# EAGLE library part AS1115 (library microbuilder)
AS1115 - 64 LED (8 * 7-Segment) LED Driver VDD: 2.7-5.5V Digikey: AS1115-BSSTCT-ND
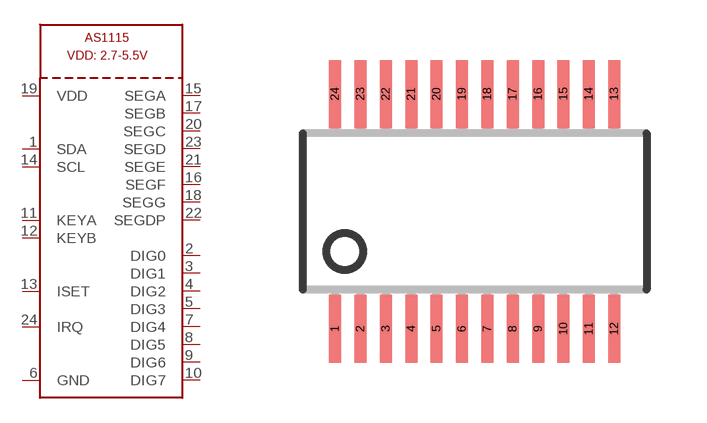
[diagram p165: symbol with the pads of QSOP24_0.635MM; footprint QSOP24_0.635MM]

Designator prefix U

## AS1115  [QSOP24_0.635MM]
1  SDA
2  DIG0
3  DIG1
4  DIG2
5  DIG3
6  GND
7  DIG4
8  DIG5
9  DIG6
10  DIG7
11  KEYA
12  KEYB
13  ISET
14  SCL
15  SEGA
16  SEGF
17  SEGB
18  SEGG
19  VDD
20  SEGC
21  SEGE
22  SEGDP
23  SEGD
24  IRQ

## Footprint QSOP24_0.635MM (pad centres in mm)
smd 0.3 x 1.7: 1 -3.493,-2.935; 2 -2.857,-2.935; 3 -2.223,-2.935; 4 -1.587,-2.935; 5 -0.953,-2.935; 6 -0.318,-2.935; 7 0.318,-2.935; 8 0.953,-2.935; 9 1.587,-2.935; 10 2.223,-2.935; 11 2.857,-2.935; 12 3.493,-2.935; 13 3.493,2.935; 14 2.857,2.935; 15 2.223,2.935; 16 1.587,2.935; 17 0.953,2.935; 18 0.318,2.935; 19 -0.318,2.935; 20 -0.953,2.935; 21 -1.587,2.935; 22 -2.223,2.935; 23 -2.857,2.935; 24 -3.493,2.935